# EAGLE library part NHD_2.7_SOLO (library Kolja)
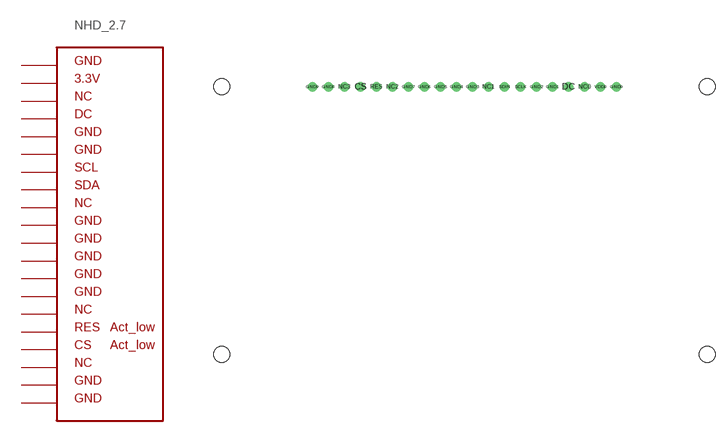
[diagram p7: symbol with the pads of NHD_2.7_SOLO; footprint NHD_2.7_SOLO]

Designator prefix -

## NHD_2.7_SOLO  [NHD_2.7_SOLO]
CS  CS
DC  DC
GND0  GND  pwr
GND1  GND2  pwr
GND2  GND3  pwr
GND3  GND4  pwr
GND4  GND5  pwr
GND5  GND6  pwr
GND6  GND7  pwr
GND7  GND8  pwr
GND8  GND9  pwr
GND9  GND10  pwr
NC0  NC
NC1  NC2
NC2  NC3
NC3  NC4
RES  RES
SCLK  SCL
SDIN  SDA
VDD0  VDD  pwr

## Footprint NHD_2.7_SOLO (pad centres in mm)
drill 1: CS -102.51,24.5; DC -69.49,24.5; GND0 -61.87,24.5; GND1 -72.03,24.5; GND2 -74.57,24.5; GND3 -84.73,24.5; GND4 -87.27,24.5; GND5 -89.81,24.5; GND6 -92.35,24.5; GND7 -94.89,24.5; GND8 -107.59,24.5; GND9 -110.13,24.5; NC0 -66.95,24.5; NC1 -82.19,24.5; NC2 -97.43,24.5; NC3 -105.05,24.5; RES -99.97,24.5; SCLK -77.11,24.5; SDIN -79.65,24.5; VDD0 -64.41,24.5
hole 2.5 at -124.5,24.5
hole 2.5 at -124.5,-18
hole 2.5 at -47.5,-18
hole 2.5 at -47.5,24.5